# Altium schematic symbol library MEM2080-00-128-00-A.SchLib: 1 symbol
Pins are listed as number, name and electrical type; pins without a type are passive.

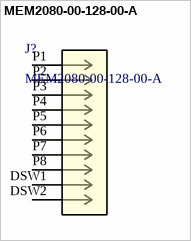
[diagram p0: symbol MEM2080-00-128-00-A]

## MEM2080-00-128-00-A
designator J?
Description; Manufacturer_Name: Global Connector Technology; Copyright: Copyright (C) 2025 Ultra Librarian. All rights reserved.; Manufacturer_Part_Number: MEM2080-00-128-00-A; RefDes: RefDes; Type: Type
footprint CONN_MEM2080-00-128-00-A_GCT
pins: DSW1 LEVER, DSW2 SWITCH, P1 DAT2, P2 CD/DAT3, P3 CMD, P4 VDD, P5 CLK, P6 VSS, P7 DAT0, P8 DAT1